# Altium footprint library TO-277A.PcbLib: 1 footprints
Each footprint in its own frame and in the unit in brackets; x right, y up, seen from the top. Pads: shape width x height; smd on the part's side, far side on the other; paste and mask are expansions set on the pad; w line width, h text height; cw(c..) or ccw(c..) is an arc to the next point about the centre after c.
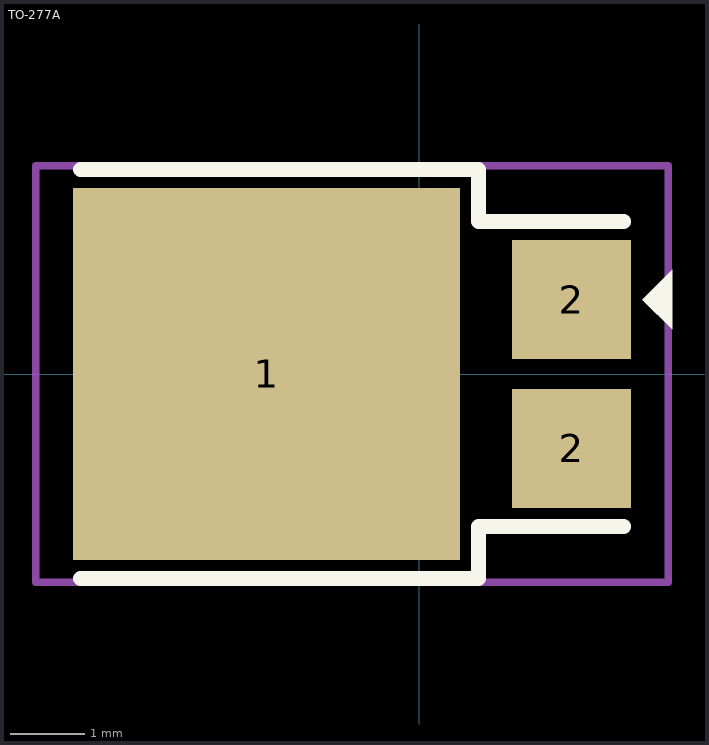
[diagram p0: the footprint, top view; thin cyan lines are the x and y axes]

## TO-277A [mm]
height 1.2
pads (3):
  rect 5.2x5 smd: 1(-2.05,0)
  rect 1.6x1.6 smd: 2(2.05,-1) 2(2.05,1)
Top Overlay:
  region: 3.4,1.4 3.4,0.6 3,1
  lines w0.2: -4.55,-2.75 0.8,-2.75 0.8,-2.05 2.75,-2.05 ; -4.55,2.75 0.8,2.75 0.8,2.05 2.75,2.05
Top Courtyard:
  lines w0.1: -5.15,-2.8 3.35,-2.8 3.35,2.8 -5.15,2.8 -5.15,-2.8
3D body "86A.STEP": height 1.2, standoff 0, extent -4.15,-2.3 2.35,2.3